# Altium footprint library PcbLib1.PcbLib: 37 footprints (part 3 of 3)
Each footprint in its own frame and in the unit in brackets; x right, y up, seen from the top. Pads: shape width x height; smd on the part's side, far side on the other; paste and mask are expansions set on the pad; w line width, h text height; cw(c..) or ccw(c..) is an arc to the next point about the centre after c.
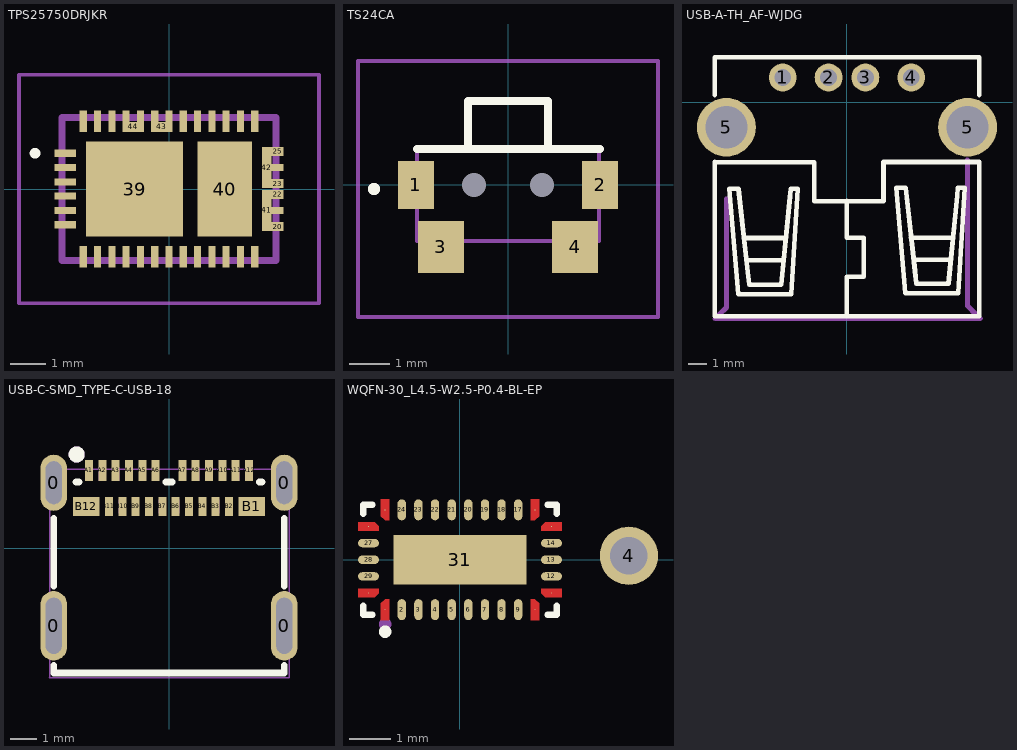
[diagram p2: the footprints below, top view; thin cyan lines are the x and y axes]

## TPS25750DRJKR [mm]
pads (44):
  rect 0.6x0.2 smd: 1(-2.9,1) 2(-2.9,0.6) 3(-2.9,0.2) 4(-2.9,-0.2) 5(-2.9,-0.6) 6(-2.9,-1)
  rect 0.2x0.6 smd: 7(-2.4,-1.9) 8(-2,-1.9) 9(-1.6,-1.9) 10(-1.2,-1.9) 11(-0.8,-1.9) 12(-0.4,-1.9) 13(0,-1.9) 14(0.4,-1.9) 15(0.8,-1.9) 16(1.2,-1.9) 17(1.6,-1.9) 18(2,-1.9) 19(2.4,-1.9) 26(2.4,1.9) 27(2,1.9) 28(1.6,1.9) 29(1.2,1.9) 30(0.8,1.9) 31(0.4,1.9) 36(-1.6,1.9) 37(-2,1.9) 38(-2.4,1.9)
  rect 0.325x0.253 smd: 20(3.038,-1.051) 22(3.038,-0.151) 23(3.038,0.15) 25(3.038,1.05)
  rect 0.325x0.2 smd: 21(3.038,-0.6) 24(3.038,0.6)
  rect 0.2x0.325 smd: 32(0,2.038) 33(-0.4,2.038) 34(-0.8,2.038) 35(-1.2,2.038)
  rect 2.72x2.65 smd: 39(-0.965,0)
  rect 1.53x2.65 smd: 40(1.56,0)
  rect 0.275x1.153 smd: 41(2.738,-0.6) 42(2.738,0.6)
  rect 0.6x0.275 smd: 43(-0.2,1.738) 44(-1,1.738)
Top Overlay:
  lines w0.2: -3.8,1 ccw(c-3.75,1) -3.7,1 ; -3.8,1 cw(c-3.75,1) -3.7,1 ; -3.8,1 ccw(c-3.75,1) -3.7,1
Mechanical 13:
  lines w0.2: -3,-2 -3,2 3,2 3,-2 -3,-2
Mechanical 15:
  lines w0.1: -4.2,-3.2 -4.2,3.2 4.2,3.2 4.2,-3.2 -4.2,-3.2
3D body "TPS25750DRJKR.stp": height 0.8, standoff 0, extent -3,-2 3,2

## TS24CA [mm]
pads (6):
  rect 0.9x1.2 smd: 1(-2.3,0) 2(2.3,0)
  rect 1.15x1.3 smd: 3(-1.675,-1.55) 4(1.675,-1.55)
  round 0.3 hole 0.6 unplated: MH1(-0.85,0) MH2(0.85,0)
Top Overlay:
  lines w0.2: -2.275,0.9 2.3,0.9 ; -1,0.9 -1,2.1 1,2.1 1,0.9 ; -3.4,-0.1 ccw(c-3.35,-0.1) -3.3,-0.1 ; -3.4,-0.1 cw(c-3.35,-0.1) -3.3,-0.1 ; -3.4,-0.1 ccw(c-3.35,-0.1) -3.3,-0.1
Mechanical 13:
  lines w0.1: -1,0.9 -1,2.1 1,2.1 1,0.9 ; -2.275,-1.4 2.275,-1.4 2.275,0.9 -2.275,0.9 -2.275,-1.4
Mechanical 15:
  lines w0.1: -3.75,-3.3 3.75,-3.3 3.75,3.1 -3.75,3.1 -3.75,-3.3
3D body "ts24ca.step": height 1.88, standoff -0.41, extent -2.364,-2.054 2.347,1.673

## USB-A-TH_AF-WJDG [mm]
pads (6):
  round 1.52 hole 0.92 paste-2539.97 mask+0.05: 1(-3.5,1.355) 2(-1,1.355) 3(1,1.355) 4(3.5,1.355)
  round 3.2 hole 2.3 paste-2539.97 mask+0.05: 5(-6.57,-1.355) 5(6.57,-1.355)
Top Overlay:
  lines w0.254: -7.199,-3.236 -7.199,-11.655 7.201,-11.655 7.201,-3.236 ; -7.199,0.404 -7.199,2.46 7.201,2.46 7.201,0.404 ; -7.19,-3.266 -1.79,-3.266 -1.79,-5.385 1.99,-5.385 1.99,-3.245 7.19,-3.245 ; -5.609,-7.385 -3.349,-7.385 ; -5.469,-8.595 -3.439,-8.595 ; -0.01,-11.525 -0.01,-9.495 0.91,-9.495 0.91,-7.376 -0.01,-7.376 -0.01,-5.355 ; 3.49,-7.366 5.75,-7.366 ; 3.63,-8.576 5.66,-8.576 ; -6.42,-4.706 -5.911,-4.71 -5.401,-9.25 -5.325,-9.928 -3.576,-9.917 -3.102,-5.139 -3.072,-4.709 -2.691,-4.709 -3.041,-10.452 -5.925,-10.441 -6.42,-4.706 ; 2.682,-4.652 3.19,-4.656 3.701,-9.196 3.776,-9.874 5.526,-9.864 6,-5.085 6.03,-4.655 6.41,-4.655 6.06,-10.398 3.177,-10.387 2.682,-4.652
Mechanical 15:
  region: -6.443,-5.27 -6.443,-11.17 -6.443,-11.182 -6.448,-11.207 -6.457,-11.23 -6.471,-11.251 -6.48,-11.26 -6.863,-11.643 6.943,-11.643 6.47,-11.17 6.461,-11.161 6.447,-11.14 6.438,-11.117 6.433,-11.092 6.433,-11.08 6.433,-3.14 6.433,-3.087 6.507,-3.013 6.613,-3.013 6.687,-3.087 6.687,-3.14 6.687,-11.027 7.34,-11.68 7.367,-11.707 7.382,-11.783 7.353,-11.854 7.289,-11.897 7.25,-11.897 -7.17,-11.897 -7.209,-11.897 -7.273,-11.854 -7.302,-11.783 -7.287,-11.707 -7.26,-11.68 -6.697,-11.117 -6.697,-5.27 -6.697,-5.217 -6.623,-5.143 -6.517,-5.143 -6.443,-5.217

## USB-C-SMD_TYPE-C-USB-18 [mm]
pads (28):
  oval 1x2.6 hole 0.6 slot 2.1 at 90 deg paste-2539.97 mask+0.05: 0(-4.32,-2.91) 0(4.32,-2.91)
  oval 1x2.1 hole 0.6 slot 1.6 at 90 deg paste-2539.97 mask+0.05: 0(-4.32,2.45) 0(4.32,2.45)
  rect 0.3x0.8 smd paste-100 mask+0.051: A1(-3,2.91) A2(-2.5,2.91) A3(-2,2.91) A4(-1.5,2.91) A5(-1,2.91) A6(-0.5,2.91) A7(0.5,2.91) A8(1,2.91) A9(1.5,2.91) A10(2,2.91) A11(2.5,2.91) A12(3,2.91)
  rect 1x0.7 smd paste-100 mask+0.05: B1(3.1,1.56) B12(-3.1,1.56)
  rect 0.3x0.7 smd paste-100 mask+0.051: B2(2.25,1.56) B3(1.75,1.56) B4(1.25,1.56) B5(0.75,1.56) B6(0.25,1.56) B7(-0.25,1.56) B8(-0.75,1.56) B9(-1.25,1.56) B10(-1.75,1.56) B11(-2.25,1.56)
Top Overlay:
  circle w0.3: c-3.46,3.51 r0.15
  lines w0.254: -4.32,-4.391 -4.32,-4.68 4.32,-4.68 4.32,-4.391 ; -4.32,-1.429 -4.32,1.119 ; -3.489,2.475 -3.376,2.475 ; -0.122,2.475 0.126,2.475 ; 3.378,2.475 3.489,2.475 ; 4.32,-1.429 4.32,1.119
Top Paste:
  drawing of 28 lines, arcs and shapes, not listed
Mechanical 6:
  circle w0.3: c-3.46,3.51 r0.15
Mechanical 15:
  drawing of 36 lines, arcs and shapes, not listed

## WQFN-30_L4.5-W2.5-P0.4-BL-EP [mm]
pads (32):
  round 0.025 smd: 1(-1.8,-1.2) 10(1.8,-1.2) 11(2.2,-0.8) 15(2.2,0.8) 16(1.8,1.2) 25(-1.8,1.2) 26(-2.2,0.8) 30(-2.2,-0.8)
  oval 0.2x0.505 smd paste-100 mask+0.051: 2(-1.4,-1.2) 3(-1,-1.2) 4(-0.6,-1.2) 5(-0.2,-1.2) 6(0.2,-1.2) 7(0.6,-1.2) 8(1,-1.2) 9(1.4,-1.2) 17(1.4,1.2) 18(1,1.2) 19(0.6,1.2) 20(0.2,1.2) 21(-0.2,1.2) 22(-0.6,1.2) 23(-1,1.2) 24(-1.4,1.2)
  round 1.4 hole 0.9: 4(4.061,0.096)
  oval 0.505x0.2 smd paste-100 mask+0.051: 12(2.2,-0.4) 13(2.2,0) 14(2.2,0.4) 27(-2.2,0.4) 28(-2.2,0) 29(-2.2,-0.4)
  rect 3.2x1.2 smd paste-100 mask+0.051: 31(0,0)
Top Layer:
  region: -2.45,-0.9 -2.45,-0.7 -1.95,-0.7 -1.95,-0.8 -2.05,-0.9
  region: -2.45,0.9 -2.45,0.7 -1.95,0.7 -1.95,0.8 -2.05,0.9
  region: -1.9,1.45 -1.7,1.45 -1.7,0.95 -1.8,0.95 -1.9,1.05
  region: 1.9,1.45 1.7,1.45 1.7,0.95 1.8,0.95 1.9,1.05
  region: 2.45,0.9 2.45,0.7 1.95,0.7 1.95,0.8 2.05,0.9
  region: 2.45,-0.9 2.45,-0.7 1.95,-0.7 1.95,-0.8 2.05,-0.9
  region: 1.9,-1.45 1.7,-1.45 1.7,-0.95 1.8,-0.95 1.9,-1.05
  region: -1.9,-1.45 -1.7,-1.45 -1.7,-0.95 -1.8,-0.95 -1.9,-1.05
Top Overlay:
  circle w0.15: c-1.8,-1.73 r0.075
  lines w0.152: -2.326,-1.103 -2.326,-1.326 -2.103,-1.326 ; -2.326,1.103 -2.326,1.326 -2.103,1.326 ; 2.103,-1.326 2.326,-1.326 2.326,-1.103 ; 2.103,1.326 2.326,1.326 2.326,1.103
Top Paste:
  drawing of 31 lines, arcs and shapes, not listed
Mechanical 15:
  circle w0.15: c-1.8,-1.55 r0.075